# EAGLE library part JOYSTIK_EDGE (library My_flight)
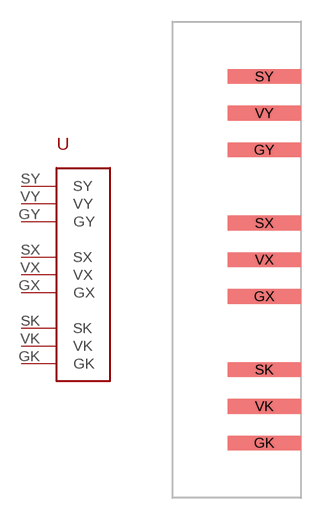
[diagram p1: symbol with the pads of JOYSTIK_EDGE; footprint JOYSTIK_EDGE]

Designator prefix -

## JOYSTIK_EDGE  [JOYSTIK_EDGE]
GK  GK
GX  GX
GY  GY
SK  SK
SX  SX
SY  SY
VK  VK
VX  VX
VY  VY

## Footprint JOYSTIK_EDGE (pad centres in mm)
smd 5.08 x 1.016: GK 0,-12.7; GX 0,-2.54; GY 0,7.62; SK 0,-7.62; SX 0,2.54; SY 0,12.7; VK 0,-10.16; VX 0,0; VY 0,10.16